# Altium footprint library Connectors Jumper 2.54.PcbLib: 3 footprints
Each footprint in its own frame and in the unit in brackets; x right, y up, seen from the top. Pads: shape width x height; smd on the part's side, far side on the other; paste and mask are expansions set on the pad; w line width, h text height; cw(c..) or ccw(c..) is an arc to the next point about the centre after c.
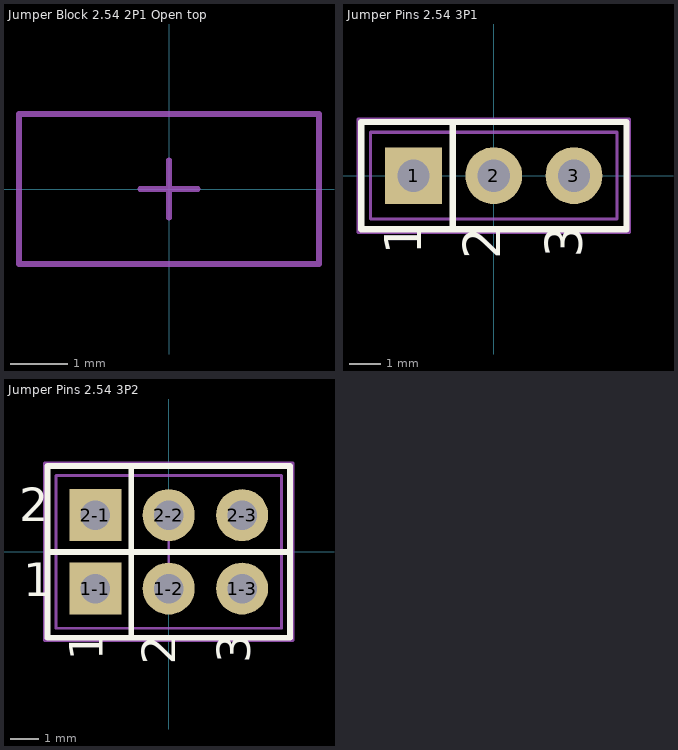
[diagram p0: the footprints below, top view; thin cyan lines are the x and y axes]

## Jumper Block 2.54 2P1 Open top [mm]
height 5.97
Top Package:
  lines w0.1: -2.6,-1.3 2.6,-1.3 2.6,1.3 -2.6,1.3 -2.6,-1.3
Top Comment:
  text ".Comment" at -2.835,1.849 h2
Top Designator:
  text ".Designator" at -4.299,1.917 h2.5
Top Border:
  lines w0.1: -0.5,0 0.5,0 ; 0,-0.5 0,0.5
3D body "User Library-jumper 2_54mm.step": height 8.75, standoff 2.75, extent -2.5,-1.2 2.5,1.2

## Jumper Pins 2.54 3P1 [mm]
height 5
pads (3):
  rect 1.8x1.8 hole 1.02: 1(-2.54,0)
  round 1.8 hole 1.02: 2(0,0) 3(2.54,0)
Top Overlay:
  lines w0.2: -1.3,-1.7 -1.3,1.7 ; -4.2,-1.7 -4.2,1.7 4.2,1.7 4.2,-1.7 -4.2,-1.7
  text "3" at 3.2,-2.594 h2
  text "2" at 0.6,-2.642 h2
  text "1" at -1.9,-2.5 h2
Top Package:
  circle w0.1: c0,0 r0.4
  circle w0.1: c-2.54,0 r0.4
  circle w0.1: c2.54,0 r0.4
  lines w0.1: -3.9,-1.375 -3.9,1.375 3.9,1.375 3.9,-1.375 -3.9,-1.375
  text "2" at 0.6,-2.642 h2
  text "3" at 3.2,-2.594 h2
  text "1" at -1.9,-2.5 h2
Top Comment:
  text ".Comment" at -2.835,2.349 h2
Top Designator:
  text ".Designator" at -4.299,2.417 h2.5
Top Border:
  lines w0.1: -0.5,0 0.5,0 ; 0,-0.5 0,0.5 ; -4.3,-1.8 4.3,-1.8 4.3,1.8 -4.3,1.8 -4.3,-1.8
3D body "User Library-PLS-3.step": height 8.54, standoff -3, extent -3.785,-1.265 3.835,1.275

## Jumper Pins 2.54 3P2 [mm]
height 5
pads (6):
  rect 1.8x1.8 hole 1.02: 1-1(-2.54,-1.27) 2-1(-2.54,1.27)
  round 1.8 hole 1.02: 1-2(0,-1.27) 1-3(2.54,-1.27) 2-2(0,1.27) 2-3(2.54,1.27)
Top Overlay:
  lines w0.2: -4.2,-0.005 4.2,-0.005 ; -4.2,2.93 -4.2,-2.97 4.2,-2.97 4.2,2.93 ; -4.2,2.97 4.2,2.97 ; -1.3,-2.97 -1.3,2.93
  text "2" at -5.182,0.67 h2
  text "1" at -1.9,-3.77 h2
  text "2" at 0.6,-3.912 h2
  text "3" at 3.2,-3.864 h2
  text "1" at -5.04,-1.91 h2
Top Package:
  circle w0.1: c0,1.27 r0.4
  circle w0.1: c-2.54,1.27 r0.4
  circle w0.1: c2.54,1.27 r0.4
  circle w0.1: c2.54,-1.27 r0.4
  circle w0.1: c-2.54,-1.27 r0.4
  circle w0.1: c0,-1.27 r0.4
  lines w0.1: -3.9,-0.01 3.9,-0.01 ; -3.9,2.63 -3.9,-2.645 3.9,-2.645 3.9,2.63 ; -3.9,2.645 3.9,2.645
  text "2" at -5.182,0.67 h2
  text "1" at -1.9,-3.77 h2
  text "3" at 3.2,-3.864 h2
  text "2" at 0.6,-3.912 h2
  text "1" at -5.04,-1.91 h2
Top Comment:
  text ".Comment" at -2.835,3.599 h2
Top Designator:
  text ".Designator" at -4.299,3.667 h2.5
Top Border:
  lines w0.1: -0.5,0.005 0.5,0.005 ; 0,-0.495 0,0.505 ; -4.3,-3.07 -4.3,3.07 4.3,3.07 4.3,-3.07 -4.3,-3.07
3D body "User Library-PLS-3.step": height 8.54, standoff -3, extent -3.8,0.03 3.82,2.57
3D body "User Library-PLS-3.step": height 8.54, standoff -3, extent -3.8,-2.51 3.82,0.03